# Altium schematic symbol library 7843332000.SchLib: 1 symbol
Pins are listed as number, name and electrical type; pins without a type are passive.

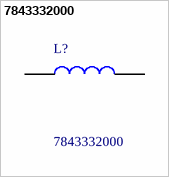
[diagram p0: symbol 7843332000]

## 7843332000
designator L?
Fixed Inductors WE-CHSA 20uH 4.3A 60.90mOhms; Manufacturer_Name: Wurth Elektronik; Geometry.Height: 11.3mm; Manufacturer_Part_Number: 7843332000; Arrow Part Number: *; Arrow Price/Stock: *; Datasheet Link: https://www.we-online.com/katalog/datasheet/7843332000.pdf
footprint 7843332000
pins: 1, 2